# EAGLE library part GARY (library Amiga)
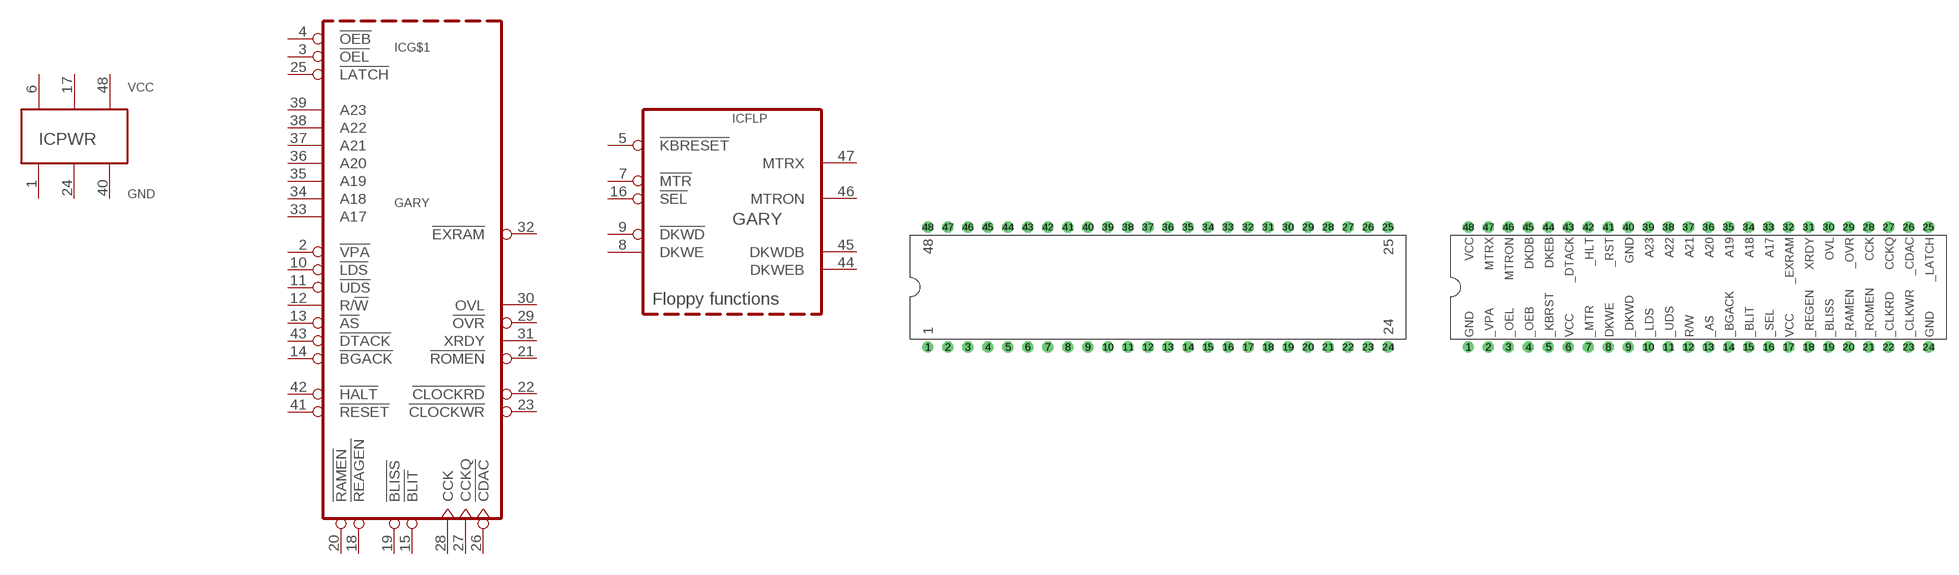
[diagram p5: symbol with the pads of DIP48-6; footprints DIP48-6, DIP48-GARY]

Designator prefix IC; gates G$1=GARY_CTRL PWR=3VCC-3GND FLP=GARY_FLOPPY

## GARY_DIP  [DIP48-6]
1  PWR:GND  pwr
2  G$1:!VPA  out
3  G$1:!OEL  out
4  G$1:!OEB  out
5  FLP:!KBRESET  in
6  PWR:VCC  pwr
7  FLP:!MTR  in
8  FLP:DKWE  in
9  FLP:!DKWD  in
10  G$1:!LDS  in
11  G$1:!UDS  in
12  G$1:R/!W!  in
13  G$1:!AS  in
14  G$1:!BGACK  in
15  G$1:!BLIT  in
16  FLP:!SEL  in
17  PWR:VCC  pwr
18  G$1:!REAGEN  out
19  G$1:!BLISS  out
20  G$1:!RAMEN  out
21  G$1:!ROMEN  out
22  G$1:!CLOCKRD  out
23  G$1:!CLOCKWR  out
24  PWR:GND  pwr
25  G$1:!LATCH  out
26  G$1:!CDAC  in
27  G$1:CCKQ  in
28  G$1:CCK  in
29  G$1:!OVR  in
30  G$1:OVL  in
31  G$1:XRDY  in
32  G$1:!EXRAM  in
33  G$1:A17  in
34  G$1:A18  in
35  G$1:A19  in
36  G$1:A20  in
37  G$1:A21  in
38  G$1:A22  in
39  G$1:A23  in
40  PWR:GND  pwr
41  G$1:!RESET  out
42  G$1:!HALT  out
43  G$1:!DTACK  out
44  FLP:DKWEB  out
45  FLP:DKWDB  out
46  FLP:MTRON  out
47  FLP:MTRX  out
48  PWR:VCC  pwr

## GARY_DIP-LABELS  [DIP48-GARY]
Pads as for DIP48-6

## Footprint DIP48-6 (pad centres in mm)
drill 0.8 pad 1.4: 1 -27.94,-7.62
drill 0.8 pad 1.4 octagon: 2 -25.4,-7.62; 3 -22.86,-7.62; 4 -20.32,-7.62; 5 -17.78,-7.62; 6 -15.24,-7.62; 7 -12.7,-7.62; 8 -10.16,-7.62; 9 -7.62,-7.62; 10 -5.08,-7.62; 11 -2.54,-7.62; 12 0,-7.62; 13 2.54,-7.62; 14 5.08,-7.62; 15 7.62,-7.62; 16 10.16,-7.62; 17 12.7,-7.62; 18 15.24,-7.62; 19 17.78,-7.62; 20 20.32,-7.62; 21 22.86,-7.62; 22 25.4,-7.62; 23 27.94,-7.62; 24 30.48,-7.62; 25 30.48,7.62; 26 27.94,7.62; 27 25.4,7.62; 28 22.86,7.62; 29 20.32,7.62; 30 17.78,7.62; 31 15.24,7.62; 32 12.7,7.62; 33 10.16,7.62; 34 7.62,7.62; 35 5.08,7.62; 36 2.54,7.62; 37 0,7.62; 38 -2.54,7.62; 39 -5.08,7.62; 40 -7.62,7.62; 41 -10.16,7.62; 42 -12.7,7.62; 43 -15.24,7.62; 44 -17.78,7.62; 45 -20.32,7.62; 46 -22.86,7.62; 47 -25.4,7.62; 48 -27.94,7.62

## Footprint DIP48-GARY (pad centres in mm)
drill 0.8 pad 1.4: 1 -29.21,-7.62
drill 0.8 pad 1.4 octagon: 2 -26.67,-7.62; 3 -24.13,-7.62; 4 -21.59,-7.62; 5 -19.05,-7.62; 6 -16.51,-7.62; 7 -13.97,-7.62; 8 -11.43,-7.62; 9 -8.89,-7.62; 10 -6.35,-7.62; 11 -3.81,-7.62; 12 -1.27,-7.62; 13 1.27,-7.62; 14 3.81,-7.62; 15 6.35,-7.62; 16 8.89,-7.62; 17 11.43,-7.62; 18 13.97,-7.62; 19 16.51,-7.62; 20 19.05,-7.62; 21 21.59,-7.62; 22 24.13,-7.62; 23 26.67,-7.62; 24 29.21,-7.62; 25 29.21,7.62; 26 26.67,7.62; 27 24.13,7.62; 28 21.59,7.62; 29 19.05,7.62; 30 16.51,7.62; 31 13.97,7.62; 32 11.43,7.62; 33 8.89,7.62; 34 6.35,7.62; 35 3.81,7.62; 36 1.27,7.62; 37 -1.27,7.62; 38 -3.81,7.62; 39 -6.35,7.62; 40 -8.89,7.62; 41 -11.43,7.62; 42 -13.97,7.62; 43 -16.51,7.62; 44 -19.05,7.62; 45 -21.59,7.62; 46 -24.13,7.62; 47 -26.67,7.62; 48 -29.21,7.62